# EAGLE library part G6K* (library K-RELAY)
DPDT
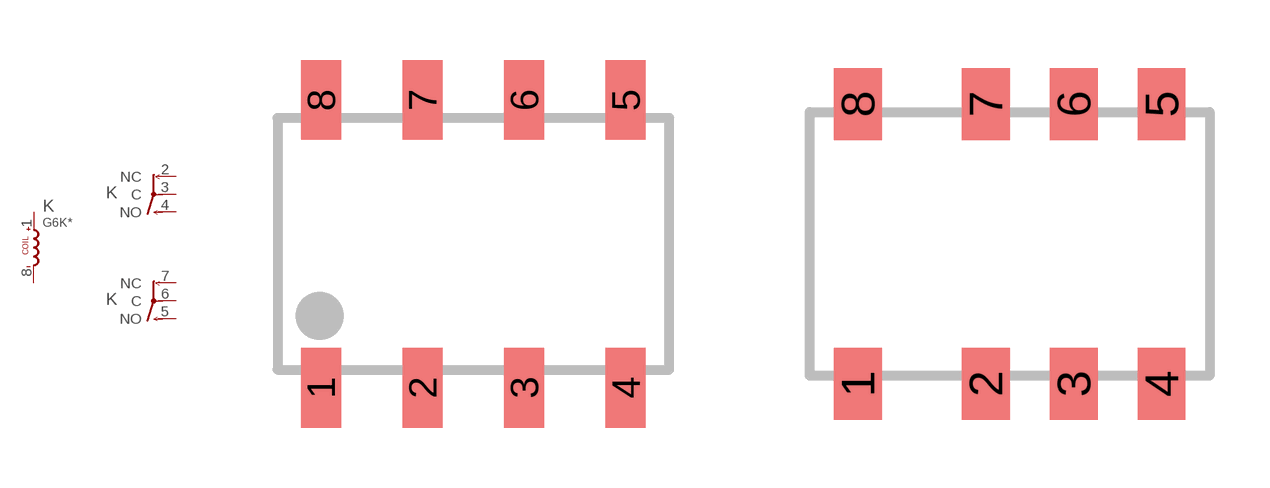
[diagram p2: symbol with the pads of 2F; footprints 2F, 2F-Y]

Designator prefix K; gates COIL=K+- 1=1C 2=1C

## G6K-2F  [2F]
1  COIL:+  pas
2  1:NC  pas
3  1:C  pas
4  1:NO  pas
5  2:NO  pas
6  2:C  pas
7  2:NC  pas
8  COIL:-  pas

## G6K-2F-Y  [2F-Y]
Pads as for 2F

## G6K-2G  [2G]
Pads as for 2F

## G6K-2G-Y  [2G-Y]
Pads as for 2F

## G6K-2P  [2P]
Pads as for 2F

## G6K-2P-Y  [2P-Y]
Pads as for 2F

## Footprint 2F (pad centres in mm)
Relay omron.com G6K-2F
smd 1 x 2: 1 -3.81,-3.6; 2 -1.27,-3.6; 3 1.27,-3.6; 4 3.81,-3.6; 5 3.81,3.6; 6 1.27,3.6; 7 -1.27,3.6; 8 -3.81,3.6

## Footprint 2F-Y (pad centres in mm)
smd 1.2 x 1.8: 1 -3.8,-3.5; 2 -0.6,-3.5; 3 1.6,-3.5; 4 3.8,-3.5; 5 3.8,3.5; 6 1.6,3.5; 7 -0.6,3.5; 8 -3.8,3.5

## Footprint 2G (pad centres in mm)
Relay omron.com G6K-2G
smd 1 x 2: 1 -3.81,-2.75; 2 -1.27,-2.75; 3 1.27,-2.75; 4 3.81,-2.75; 5 3.81,2.75; 6 1.27,2.75; 7 -1.27,2.75; 8 -3.81,2.75

## Footprint 2G-Y (pad centres in mm)
smd 1.2 x 1.8: 1 -3.8,-2.85; 2 -0.6,-2.85; 3 1.6,-2.85; 4 3.8,-2.85; 5 3.8,2.85; 6 1.6,2.85; 7 -0.6,2.85; 8 -3.8,2.85

## Footprint 2P (pad centres in mm)
Relay omron.com G6K-2P
drill 0.8 octagon: 1 -3.81,-2.54; 2 -1.27,-2.54; 3 1.27,-2.54; 4 3.81,-2.54; 5 3.81,2.54; 6 1.27,2.54; 7 -1.27,2.54; 8 -3.81,2.54

## Footprint 2P-Y (pad centres in mm)
pads verifyed with datasheet RSS (6/15/14)
drill 0.85 octagon: 1 -3.81,-2.54; 2 -0.61,-2.54; 3 1.59,-2.54; 4 3.79,-2.54; 5 3.79,2.54; 6 1.59,2.54; 7 -0.61,2.54; 8 -3.81,2.54